# Altium footprint library WANGYU92100PcbLib.PcbLib: 392 footprints (part 14 of 25)
Each footprint in its own frame and in the unit in brackets; x right, y up, seen from the top. Pads: shape width x height; smd on the part's side, far side on the other; paste and mask are expansions set on the pad; w line width, h text height; cw(c..) or ccw(c..) is an arc to the next point about the centre after c.
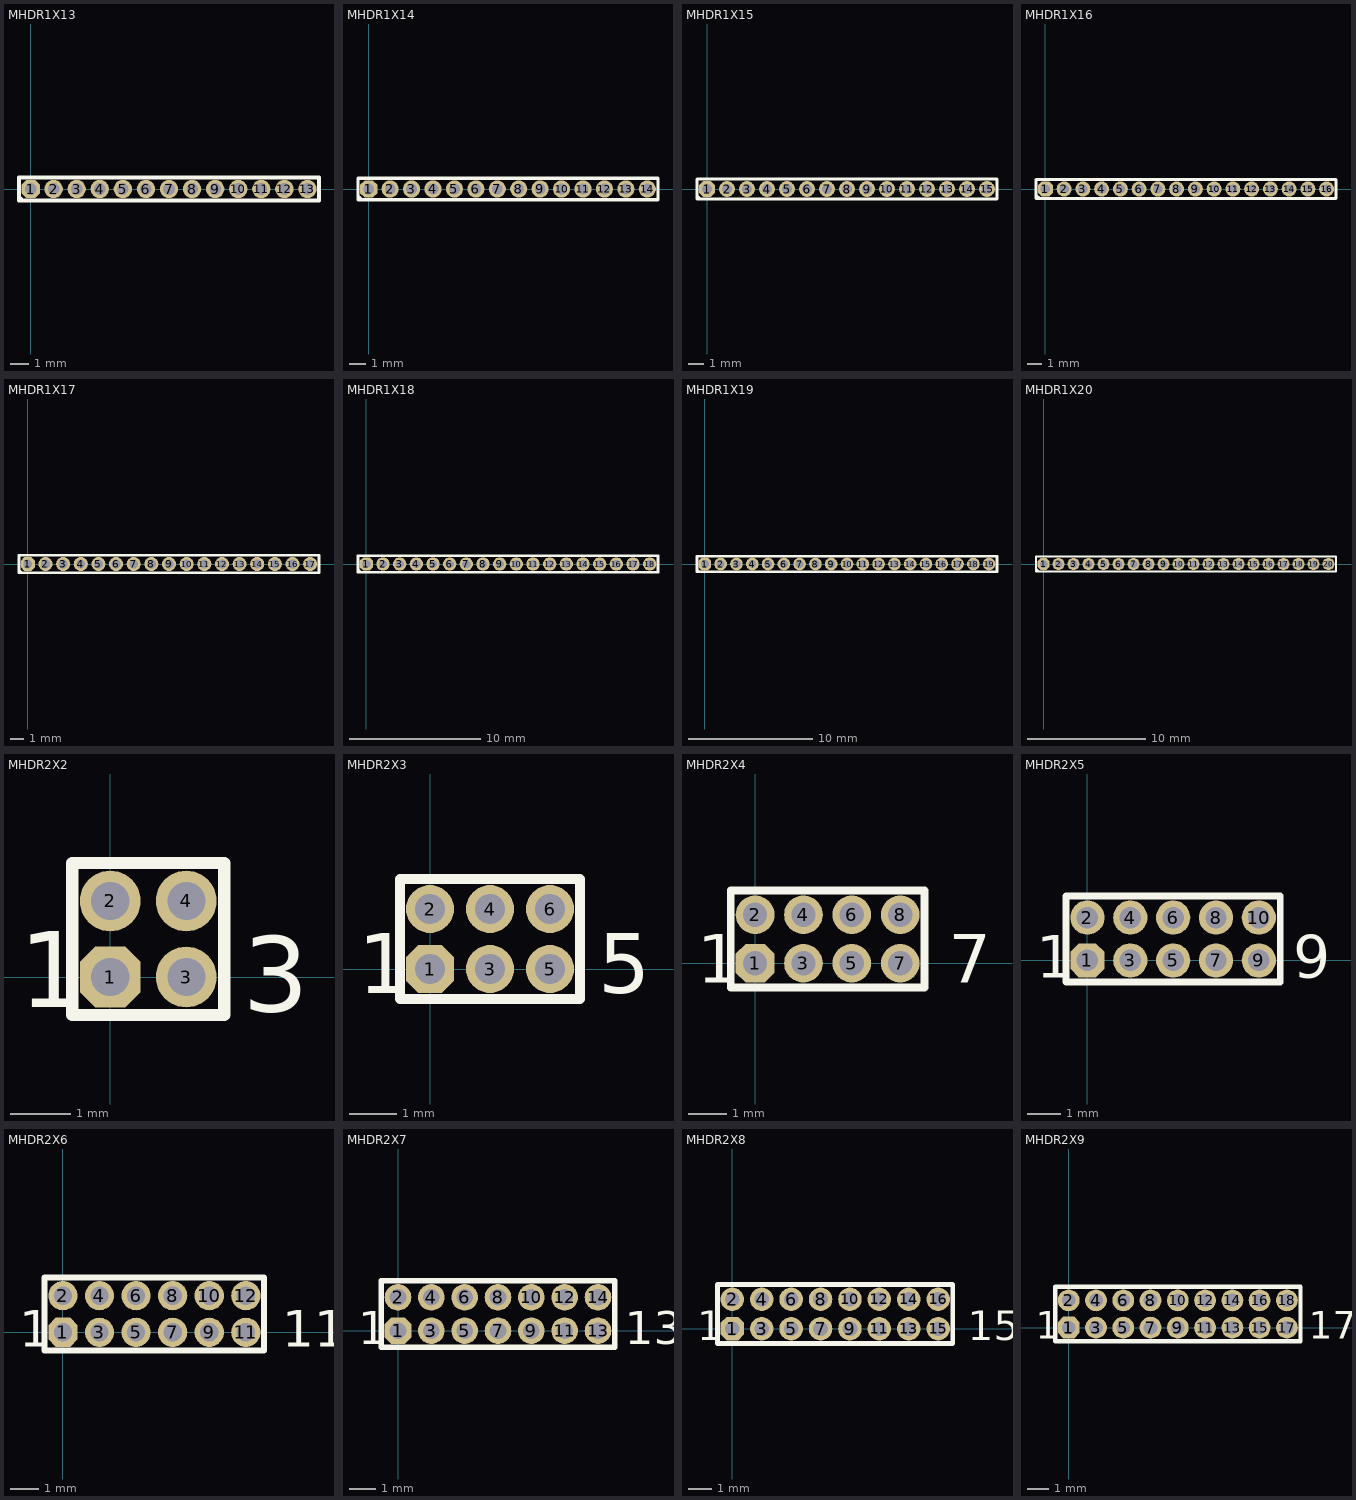
[diagram p13: the footprints below, top view; thin cyan lines are the x and y axes]

## MHDR1X13 [mil]
pads (13):
  oct 40x40 hole 25: 1(0,0)
  round 40 hole 25: 2(50,0) 3(100,0) 4(150,0) 5(200,0) 6(250,0) 7(300,0) 8(350,0) 9(400,0) 10(450,0) 11(500,0) 12(550,0) 13(600,0)
Top Overlay:
  lines w8: -25,-16.67 -16.67,-25 ; -25,-25 -25,25 625,25 625,-25 -25,-25

## MHDR1X14 [mil]
pads (14):
  oct 40x40 hole 25: 1(0,0)
  round 40 hole 25: 2(50,0) 3(100,0) 4(150,0) 5(200,0) 6(250,0) 7(300,0) 8(350,0) 9(400,0) 10(450,0) 11(500,0) 12(550,0) 13(600,0) 14(650,0)
Top Overlay:
  lines w8: -25,-16.67 -16.67,-25 ; -25,-25 -25,25 675,25 675,-25 -25,-25

## MHDR1X15 [mil]
pads (15):
  oct 40x40 hole 25: 1(0,0)
  round 40 hole 25: 2(50,0) 3(100,0) 4(150,0) 5(200,0) 6(250,0) 7(300,0) 8(350,0) 9(400,0) 10(450,0) 11(500,0) 12(550,0) 13(600,0) 14(650,0) 15(700,0)
Top Overlay:
  lines w8: -25,-16.67 -16.67,-25 ; -25,-25 -25,25 725,25 725,-25 -25,-25

## MHDR1X16 [mil]
pads (16):
  oct 40x40 hole 25: 1(0,0)
  round 40 hole 25: 2(50,0) 3(100,0) 4(150,0) 5(200,0) 6(250,0) 7(300,0) 8(350,0) 9(400,0) 10(450,0) 11(500,0) 12(550,0) 13(600,0) 14(650,0) 15(700,0) 16(750,0)
Top Overlay:
  lines w8: -25,-16.67 -16.67,-25 ; -25,-25 -25,25 775,25 775,-25 -25,-25

## MHDR1X17 [mil]
pads (17):
  oct 40x40 hole 25: 1(0,0)
  round 40 hole 25: 2(50,0) 3(100,0) 4(150,0) 5(200,0) 6(250,0) 7(300,0) 8(350,0) 9(400,0) 10(450,0) 11(500,0) 12(550,0) 13(600,0) 14(650,0) 15(700,0) 16(750,0) 17(800,0)
Top Overlay:
  lines w8: -25,-16.67 -16.67,-25 ; -25,-25 825,-25 825,25 -25,25 -25,-25

## MHDR1X18 [mil]
pads (18):
  oct 40x40 hole 25: 1(0,0)
  round 40 hole 25: 2(50,0) 3(100,0) 4(150,0) 5(200,0) 6(250,0) 7(300,0) 8(350,0) 9(400,0) 10(450,0) 11(500,0) 12(550,0) 13(600,0) 14(650,0) 15(700,0) 16(750,0) 17(800,0) 18(850,0)
Top Overlay:
  lines w8: -25,-16.67 -16.67,-25 ; -25,-25 -25,25 875,25 875,-25 -25,-25

## MHDR1X19 [mil]
pads (19):
  oct 40x40 hole 25: 1(0,0)
  round 40 hole 25: 2(50,0) 3(100,0) 4(150,0) 5(200,0) 6(250,0) 7(300,0) 8(350,0) 9(400,0) 10(450,0) 11(500,0) 12(550,0) 13(600,0) 14(650,0) 15(700,0) 16(750,0) 17(800,0) 18(850,0) 19(900,0)
Top Overlay:
  lines w8: -25,-16.67 -16.67,-25 ; -25,-25 -25,25 925,25 925,-25 -25,-25

## MHDR1X20 [mil]
pads (20):
  oct 40x40 hole 25: 1(0,0)
  round 40 hole 25: 2(50,0) 3(100,0) 4(150,0) 5(200,0) 6(250,0) 7(300,0) 8(350,0) 9(400,0) 10(450,0) 11(500,0) 12(550,0) 13(600,0) 14(650,0) 15(700,0) 16(750,0) 17(800,0) 18(850,0) 19(900,0) 20(950,0)
Top Overlay:
  lines w8: -25,-16.67 -16.67,-25 ; -25,-25 975,-25 975,25 -25,25 -25,-25

## MHDR2X2 [mil]
pads (4):
  oct 40x40 hole 25: 1(0,0)
  round 40 hole 25: 2(0,50) 3(50,0) 4(50,50)
Top Overlay:
  lines w8: -25,-25 75,-25 75,75 -25,75 -25,-25
  text "1" at -60,-20 h50
  text "3" at 87.25,-22.74 h50

## MHDR2X3 [mil]
pads (6):
  oct 40x40 hole 25: 1(0,0)
  round 40 hole 25: 2(0,50) 3(50,0) 4(50,50) 5(100,0) 6(100,50)
Top Overlay:
  lines w8: -25,-25 -25,75 125,75 125,-25 -25,-25
  text "5" at 140,-20 h50
  text "1" at -60,-20 h50

## MHDR2X4 [mil]
pads (8):
  oct 40x40 hole 25: 1(0,0)
  round 40 hole 25: 2(0,50) 3(50,0) 4(50,50) 5(100,0) 6(100,50) 7(150,0) 8(150,50)
Top Overlay:
  lines w8: -25,-25 175,-25 175,75 -25,75 -25,-25
  text "1" at -60,-20 h50
  text "7" at 200,-20 h50

## MHDR2X5 [mil]
pads (10):
  oct 40x40 hole 25: 1(0,0)
  round 40 hole 25: 2(0,50) 3(50,0) 4(50,50) 5(100,0) 6(100,50) 7(150,0) 8(150,50) 9(200,0) 10(200,50)
Top Overlay:
  lines w8: -25,-25 -25,75 225,75 225,-25 -25,-25
  text "9" at 240,-20 h50
  text "1" at -60,-20 h50

## MHDR2X6 [mil]
pads (12):
  oct 40x40 hole 25: 1(0,0)
  round 40 hole 25: 2(0,50) 3(50,0) 4(50,50) 5(100,0) 6(100,50) 7(150,0) 8(150,50) 9(200,0) 10(200,50) 11(250,0) 12(250,50)
Top Overlay:
  lines w8: -25,-25 275,-25 275,75 -25,75 -25,-25
  text "1" at -60,-20 h50
  text "11" at 300,-20 h50

## MHDR2X7 [mil]
pads (14):
  oct 40x40 hole 25: 1(0,0)
  round 40 hole 25: 2(0,50) 3(50,0) 4(50,50) 5(100,0) 6(100,50) 7(150,0) 8(150,50) 9(200,0) 10(200,50) 11(250,0) 12(250,50) 13(300,0) 14(300,50)
Top Overlay:
  lines w8: -25,-25 -25,75 325,75 325,-25 -25,-25
  text "13" at 340,-20 h50
  text "1" at -60,-20 h50

## MHDR2X8 [mil]
pads (16):
  oct 40x40 hole 25: 1(0,0)
  round 40 hole 25: 2(0,50) 3(50,0) 4(50,50) 5(100,0) 6(100,50) 7(150,0) 8(150,50) 9(200,0) 10(200,50) 11(250,0) 12(250,50) 13(300,0) 14(300,50) 15(350,0) 16(350,50)
Top Overlay:
  lines w8: -25,-25 375,-25 375,75 -25,75 -25,-25
  text "1" at -60,-20 h50
  text "15" at 400,-20 h50

## MHDR2X9 [mil]
pads (18):
  oct 40x40 hole 25: 1(0,0)
  round 40 hole 25: 2(0,50) 3(50,0) 4(50,50) 5(100,0) 6(100,50) 7(150,0) 8(150,50) 9(200,0) 10(200,50) 11(250,0) 12(250,50) 13(300,0) 14(300,50) 15(350,0) 16(350,50) 17(400,0) 18(400,50)
Top Overlay:
  lines w8: -25,-25 -25,75 425,75 425,-25 -25,-25
  text "17" at 440,-20 h50
  text "1" at -60,-20 h50